# Altium schematic symbol library 436331045822.SchLib: 1 symbol
Pins are listed as number, name and electrical type; pins without a type are passive.

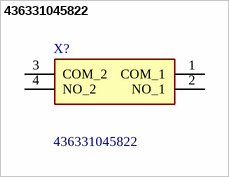
[diagram p0: symbol 436331045822]

## 436331045822
designator X?
WS-TASU Tact Switch 4.7*3.5mm, side push type, SMT, with boss design, height 1.65mm, black actuator , 220gf, T&R; Manufacturer_Name: Wurth Elektronik; Manufacturer_Part_Number: 436331045822; Mouser Part Number: 710-436331045822; Mouser Price/Stock: https://www.mouser.co.uk/ProductDetail/Wurth-Elektronik/436331045822?qs=wr8lucFkNMXz9UbduBxtIQ%3D%3D; Arrow Part Number: *; Arrow Price/Stock: *; Datasheet Link: https://www.we-online.com/catalog/datasheet/436331045822.pdf; Geometry.Height: 1.65mm
footprint 436331045822
pins: 1 COM_1, 2 NO_1, 3 COM_2, 4 NO_2